# Altium footprint library QFN40_RHA.PcbLib: 1 footprints
Each footprint in its own frame and in the unit in brackets; x right, y up, seen from the top. Pads: shape width x height; smd on the part's side, far side on the other; paste and mask are expansions set on the pad; w line width, h text height; cw(c..) or ccw(c..) is an arc to the next point about the centre after c.
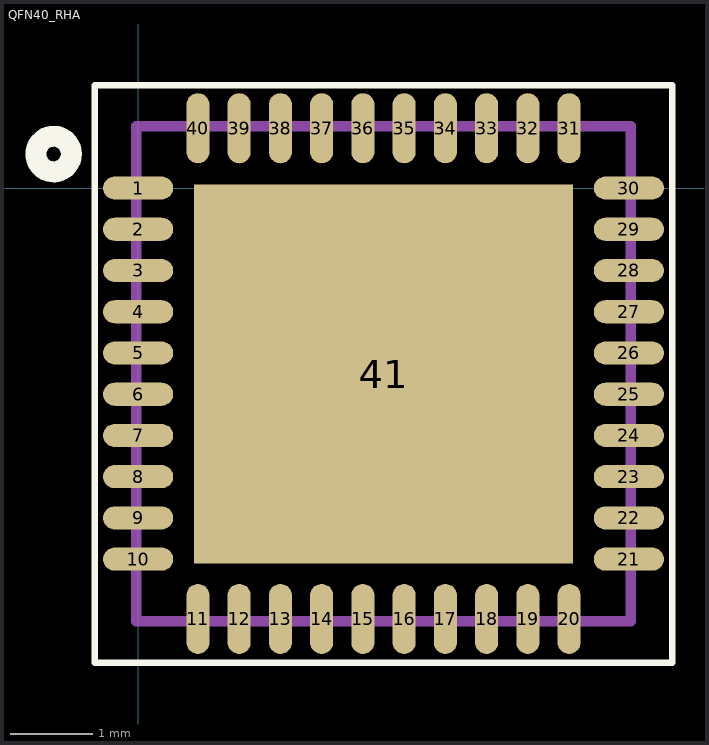
[diagram p0: the footprint, top view; thin cyan lines are the x and y axes]

## QFN40_RHA [mm]
pads (41):
  oval 0.85x0.28 smd: 1(0,0) 2(0,-0.5) 3(0,-1) 4(0,-1.5) 5(0,-2) 6(0,-2.5) 7(0,-3) 8(0,-3.5) 9(0,-4) 10(0,-4.5) 21(5.95,-4.5) 22(5.95,-4) 23(5.95,-3.5) 24(5.95,-3) 25(5.95,-2.5) 26(5.95,-2) 27(5.95,-1.5) 28(5.95,-1) 29(5.95,-0.5) 30(5.95,0)
  oval 0.28x0.85 smd: 11(0.725,-5.225) 12(1.225,-5.225) 13(1.725,-5.225) 14(2.225,-5.225) 15(2.725,-5.225) 16(3.225,-5.225) 17(3.725,-5.225) 18(4.225,-5.225) 19(4.725,-5.225) 20(5.225,-5.225) 31(5.225,0.725) 32(4.725,0.725) 33(4.225,0.725) 34(3.725,0.725) 35(3.225,0.725) 36(2.725,0.725) 37(2.225,0.725) 38(1.725,0.725) 39(1.225,0.725) 40(0.725,0.725)
  rect 4.6x4.6 smd: 41(2.975,-2.255)
Top Overlay:
  circle w0.254: c-1.025,0.412 r0.216
  lines w0.08: -0.525,-5.755 6.475,-5.755 6.475,1.245 -0.525,1.245 -0.525,-5.755
Mechanical 11:
  lines w0.127: -0.025,-5.25 5.975,-5.25 5.975,0.75 -0.025,0.75 -0.025,-5.25